# Altium schematic symbol library brain-dll-Sch.SchLib: 45 symbols
Pins are listed as number, name and electrical type; pins without a type are passive.

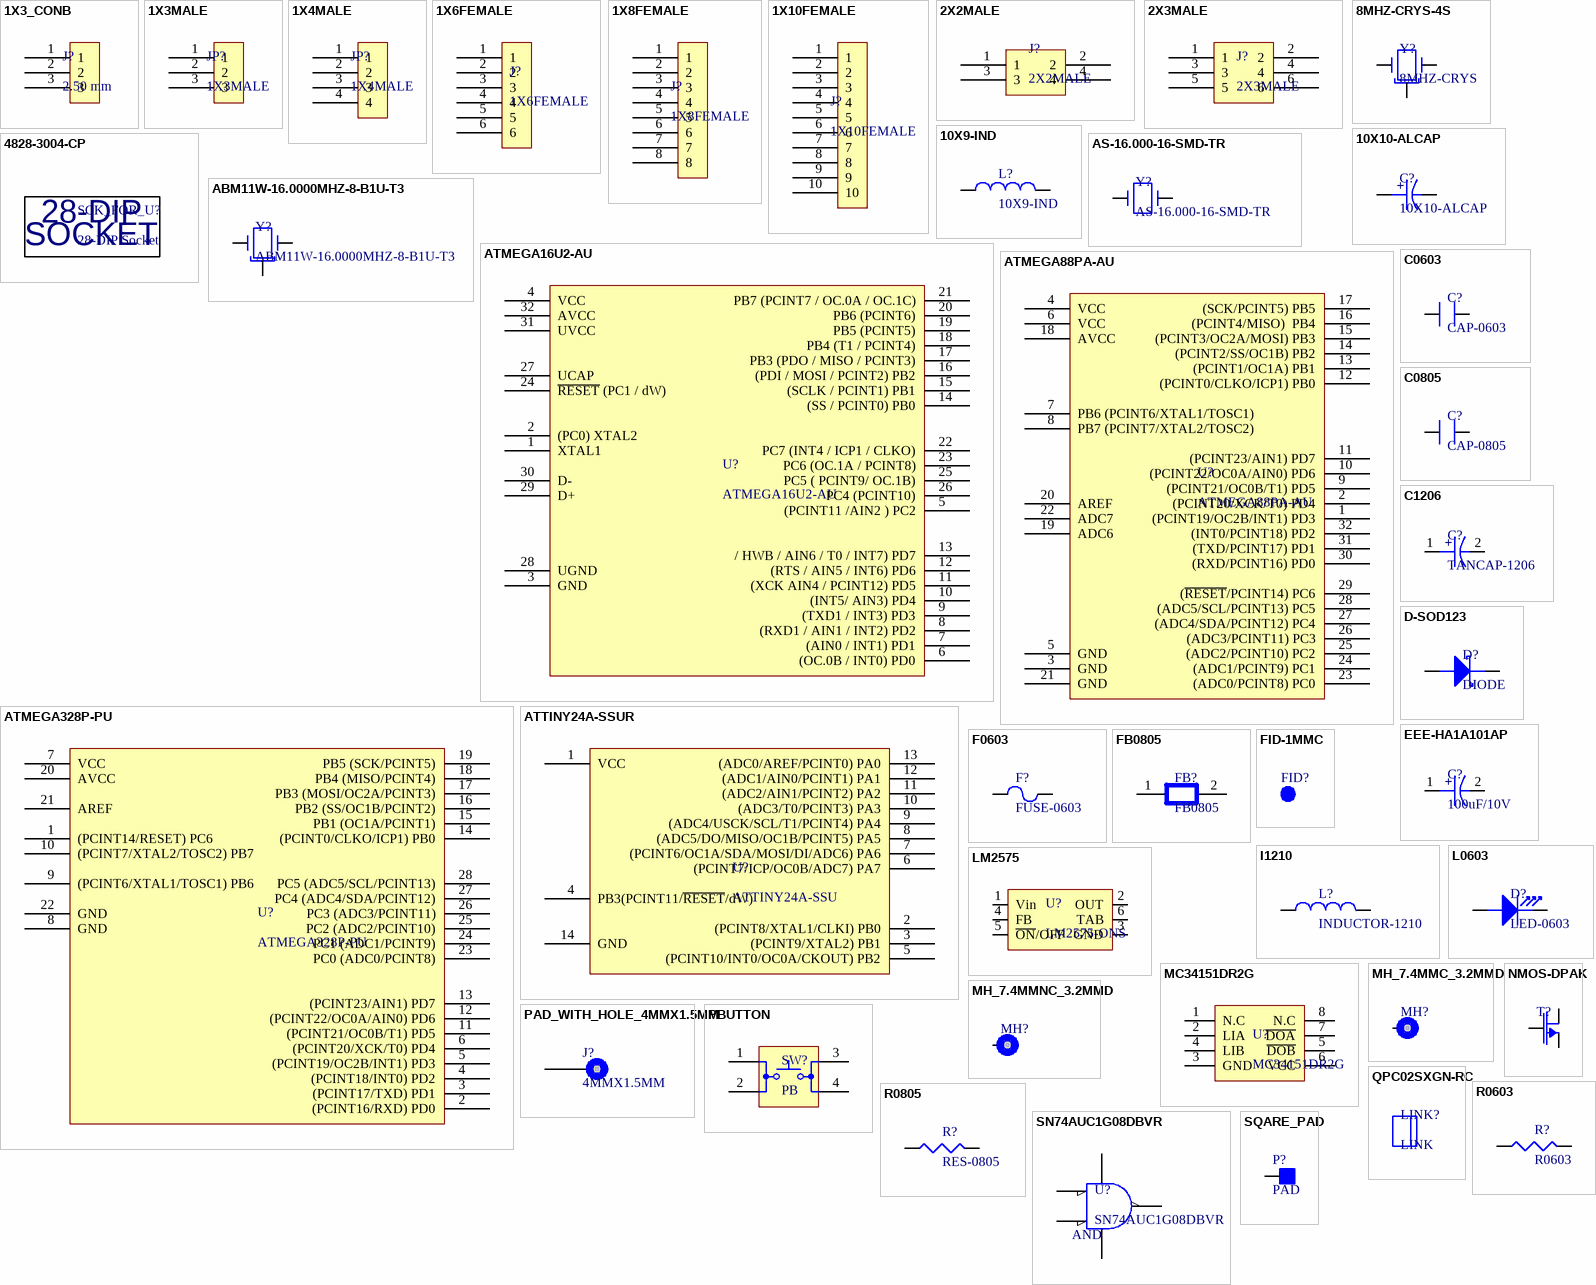
[diagram p0: symbols 1X3_CONB to SQARE_PAD]

## 1X3_CONB
designator J?, comment 2.50 mm
OZDISAN_PRICE: 0,27 TRY; ComponentLink1Description: OZDISAN_LINK; ComponentLink1URL: https://ozdisan.com/konnektor-ve-baglanti-elemanlari/konnektor-cesitleri/pcb-konnektorler/L-KLS1-XL4-2-50-03-R
footprint L-KLS1-XL4-2.50-03-R
pins: 1, 2, 3

## 1X3MALE
designator JP?
Unit_Price: *; Manufacturer Product Number: *; Order Link: *
footprint FEMALE-1X3-2.54mm
pins: 1, 2, 3

## 1X4MALE
designator JP?
Unit_Price: *; Manufacturer Product Number: *; Order Link: *
footprint HDR-1X4-2.54mm
pins: 1, 2, 3, 4

## 1X6FEMALE
designator J?
Unit_Price: *; Manufacturer Product Number: *; Order Link: *
footprint FEMALE-1X6-2.54mm
pins: 1, 2, 3, 4, 5, 6

## 1X8FEMALE
designator J?
Manufacturer Product Number: *; Order Link: *; Unit_Price: *
footprint FEMALE-1X8-2.54mm
pins: 1, 2, 3, 4, 5, 6, 7, 8

## 1X10FEMALE
designator J?
Manufacturer Product Number: *; Unit_Price: *; Order Link: *
footprint FEMALE-1X10-2.54mm
pins: 1, 2, 3, 4, 5, 6, 7, 8, 9, 10

## 2X2MALE
designator J?
Manufacturer Product Number: *; Order Link: *; Unit_Price: *
footprint HDR-2X2-2.54MM
pins: 1, 2, 3, 4

## 2X3MALE
designator J?
Manufacturer Product Number: *; Order Link: *; Unit_Price: *
footprint HDR-2X3-2.54MM
pins: 1, 2, 3, 4, 5, 6

## 8MHZ-CRYS-4S
designator Y?, comment 8MHZ-CRYS
Case/Package: 4-SMD; Unit_Price: *; Manufacturer Product Number: *; Order Link: *
footprint 4-SMD; pin to pad 2>2+4
pins: 1, 2, 3

## 10X9-IND
designator L?
Unit_Price: *; Manufacturer Product Number: *; Order Link: *
footprint 10X9-IND
pins: 1, 2

## 10X10-ALCAP
designator C?
Unit_Price: *; Manufacturer Product Number: *; Order Link: *
footprint 10X10-ALCAP
pins: 1, 2
text: +

## 4828-3004-CP
designator SCK_FOR_U?, comment 28-DIP Socket
CONN IC DIP SOCKET 28POS TIN; Manufacturer: 3M; Manufacturer Part Number: 4828-3004-CP; Number of Contacts: 28; Gender: Female; Insulation Resistance: 5GR; Connector Type: DIP,Socket; Current Rating: 1A; Pitch: 2.54mm; Row Spacing: 7.62mm; Supplier 1: Digi-Key; RoHS: Yes; Category: Connectors; Stock 1: 3763; Pricing 1: 1=0,90000, 10=0,76200, 25=0,73040, 40=0,71500, 80=0,68388, 230=0,62174, 440=0,55959, 945=0,49741, 2400=0,45078 (USD); Mount: Through Hole; Contact Material: Bronze; Contact Plating: Tin; Housing Material: Glass; Min Operating Temperature: -25°C; Max Operating Temperature: 85°C; Termination: Solder; Orientation: Straight; Number of Rows: 2; Number of Positions: 28; Package Quantity: 5600; Length: 35.43mm; Width: 10.16mm; Depth: 5.08mm; REACH SVHC: Unknown; Lead Free: Lead Free; ComponentLink1URL: https://datasheet.ciiva.com/768/ts1099-768354.pdf?src-supplier=Digi-Key; ComponentLink1Description: https://datasheet.ciiva.com/768/ts1099-768354.pdf?src-supplier=Digi-Key; Supplier Part Number 1: 3M5480-ND
footprint 28_DIP_7.62mm_SOCKET
text: 28-DIP; SOCKET

## ABM11W-16.0000MHZ-8-B1U-T3
designator Y?
Iot Optimized 16MHZ 8PF Crystal; Manufacturer: Abracon; Supplier 1: Digi-Key; Manufacturer Part Number: ABM11W-16.0000MHZ-8-B1U-T3; RoHS: Yes; Category: Crystals; Stock 1: 1980; Pricing 1: 1=0,75000, 10=0,66200, 50=0,61920, 100=0,54720, 500=0,51840, 1000=0,43200 (USD); RoHS Compliant: Yes; ComponentLink1URL: https://abracon.com/Resonators/ABM11W.pdf?src-supplier=Digi-Key; ComponentLink1Description: https://abracon.com/Resonators/ABM11W.pdf?src-supplier=Digi-Key; Supplier Part Number 1: 535-13813-1-ND
footprint ABM11W; pin to pad 2>2+4
pins: 1, 2, 3

## AS-16.000-16-SMD-TR
designator Y?
AS-SMD Series 16 MHz ±30 ppm 16pF -20°C TO +70°C SMT Microprocessor Crystal; Manufacturer: Raltron Electronics; Frequency Tolerance: 30ppm; Frequency: 16MHz; Capacitance: 1.6E-11F; OZDISAN_PRICE: 1.95 TRY; Supplier 1: Future Electronics; Manufacturer Part Number: AS-16.000-16-SMD-TR; RoHS: Yes; Pricing 1: 1000=0,12700 (USD); Min Operating Temperature: -20°C; Max Operating Temperature: 70°C; Load Capacitance: 16pF; Lead Free: Lead Free; Supplier Part Number 1: 5574900; ComponentLink2Description: OZDISAN_LINK; ComponentLink2URL: https://ozdisan.com/Product/Detail/40446/AS-16-000-16-SMD-TR
footprint AS-16.000-16-SMD-TR
pins: 1, 2

## ATMEGA16U2-AU
designator U?
MICROCHIP - ATMEGA16U2-AU - MCU, 8BIT, MEGAAVR, 16MHZ, TQFP-32; Manufacturer: Microchip / Atmel; Core Architecture: AVR; Interface: SPI,UART,USB,USART,Serial; Data Bus Width: 8b; Memory Type: FLASH; Memory Size: 16KB; RAM Size: 512B; Number of I/Os: 22; Number of Timers/Counters: 2; Max Supply Voltage: 5.5V; Min Supply Voltage: 2.7V; Oscillator Type: Internal; Watchdog Timer: Yes; Peripherals: Brown-out Detect/Reset,POR,PWM,WDT; Number of PWM Channels: 5; Number of SPI Channels: 1; Supplier 1: Arrow Electronics; Manufacturer Part Number: ATMEGA16U2-AU; RoHS: Yes; Category: Microcontrollers; Mount: Surface Mount; Case/Package: A; Number of Pins: 32; Contact Plating: Tin,Matte; Min Operating Temperature: -40°C; Max Operating Temperature: 85°C; Package Quantity: 1250; Frequency: 16MHz; Packaging: Tray; Number of Programmable I/O: 22; Max Frequency: 16MHz; Series: AVR® ATmega; Length: 7mm; Width: 7mm; Height: 1.05mm; REACH SVHC: No SVHC; Lead Free: Lead Free; RoHS Compliant: Yes; ComponentLink1URL: https://datasheet.ciiva.com/13036/doc7799-28769-13036800.pdf?src-supplier=Mouser; ComponentLink1Description: https://datasheet.ciiva.com/13036/doc7799-28769-13036800.pdf?src-supplier=Mouser; ComponentLink2URL: https://datasheet.ciiva.com/22651/doc7799-22651110.pdf?src-supplier=Farnell; ComponentLink2Description: https://datasheet.ciiva.com/22651/doc7799-22651110.pdf?src-supplier=Farnell; Supplier Part Number 1: ATMEGA16U2-AU
footprint TQFP32
pins: 1 XTAL1, 2 (PC0) XTAL2, 3 GND, 4 VCC, 5 (PCINT11 /AIN2 ) PC2, 6 (OC.0B / INT0) PD0, 7 (AIN0 / INT1) PD1, 8 (RXD1 / AIN1 / INT2) PD2, 9 (TXD1 / INT3) PD3, 10 (INT5/ AIN3) PD4, 11 (XCK AIN4 / PCINT12) PD5, 12 (RTS / AIN5 / INT6) PD6, 13 / HWB / AIN6 / T0 / INT7) PD7, 14 (SS / PCINT0) PB0, 15 (SCLK / PCINT1) PB1, 16 (PDI / MOSI / PCINT2) PB2, 17 PB3 (PDO / MISO / PCINT3), 18 PB4 (T1 / PCINT4), 19 PB5 (PCINT5), 20 PB6 (PCINT6), 21 PB7 (PCINT7 / OC.0A / OC.1C), 22 PC7 (INT4 / ICP1 / CLKO), 23 PC6 (OC.1A / PCINT8), 24 ~{RESET} (PC1 / dW), 25 PC5 ( PCINT9/ OC.1B), 26 PC4 (PCINT10), 27 UCAP, 28 UGND, 29 D+, 30 D-, 31 UVCC, 32 AVCC

## ATMEGA88PA-AU
designator U?
MCU 8-bit ATmega AVR RISC 8KB Flash 2.5V/3.3V/5V 32-Pin TQFP; Manufacturer: Microchip / Atmel; Interface: SPI,UART,I2C,USART,2-Wire; Frequency: 20MHz; Number of I/Os: 23; Oscillator Type: Internal; Peripherals: Brown-out Detect/Reset,POR,PWM,WDT; RAM Size: 1KB; Max Supply Voltage: 5.5V; Min Supply Voltage: 1.8V; Number of Timers/Counters: 3; Data Bus Width: 8b; Watchdog Timer: Yes; Number of PWM Channels: 6; Number of ADC Channels: 8; Number of SPI Channels: 1; Voltage: 5V; OZDISAN_PRICE: 33,63 TRY; Supplier 1: Arrow Electronics; Manufacturer Part Number: ATMEGA88PA-AU; RoHS: Yes; Mount: Surface Mount; Case/Package: A; Number of Pins: 32; Contact Plating: Tin,Matte; Min Operating Temperature: -40°C; Max Operating Temperature: 85°C; Packaging: Tray; Core Architecture: AVR; Package Quantity: 250; Memory Type: FLASH; Memory Size: 8KB; Number of Programmable I/O: 23; Max Frequency: 20MHz; Density: 8KB; Number of I2C Channels: 1; Termination: SMD/SMT; Series: AVR® ATmega; Length: 7mm; Width: 7mm; Height: 1.05mm; Radiation Hardening: No; REACH SVHC: No SVHC; Lead Free: Lead Free; Supplier Part Number 1: ATMEGA88PA-AU; ComponentLink4Description: OZDISAN_LINK; ComponentLink4URL: https://ozdisan.com/entegre-devreler-ics/embedded-entegreler/mikroislemciler/ATMEGA88PA-AU; Category: Microcontrollers
footprint TQFP32(ATMEGA88)
pins: 1 (PCINT19/OC2B/INT1) PD3, 2 (PCINT20/XCK/T0) PD4, 3 GND, 4 VCC, 5 GND, 6 VCC, 7 PB6 (PCINT6/XTAL1/TOSC1) , 8 PB7 (PCINT7/XTAL2/TOSC2) , 9 (PCINT21/OC0B/T1) PD5, 10 (PCINT22/OC0A/AIN0) PD6, 11 (PCINT23/AIN1) PD7, 12 (PCINT0/CLKO/ICP1) PB0, 13 (PCINT1/OC1A) PB1, 14 (PCINT2/SS/OC1B) PB2, 15 (PCINT3/OC2A/MOSI) PB3, 16 (PCINT4/MISO)  PB4, 17 (SCK/PCINT5) PB5, 18 AVCC, 19 ADC6, 20 AREF, 21 GND, 22 ADC7, 23 (ADC0/PCINT8) PC0, 24 (ADC1/PCINT9) PC1, 25 (ADC2/PCINT10) PC2, 26 (ADC3/PCINT11) PC3, 27 (ADC4/SDA/PCINT12) PC4, 28 (ADC5/SCL/PCINT13) PC5, 29 (~{RESET}/PCINT14) PC6, 30 (RXD/PCINT16) PD0, 31 (TXD/PCINT17) PD1, 32 (INT0/PCINT18) PD2

## ATMEGA328P-PU
designator U?
IC MCU 8BIT 32KB FLASH 28DIP; Manufacturer: Microchip / Atmel; RAM Size: 2KB; Number of Timers/Counters: 3; Min Supply Voltage: 1.8V; Max Supply Voltage: 5.5V; Interface: I2C,SPI,UART,USART,2-Wire; Number of I/Os: 23; Frequency: 20MHz; Oscillator Type: Internal; Data Bus Width: 8b; Watchdog Timer: Yes; Peripherals: Brown-out Detect/Reset,POR,PWM,WDT; Core Architecture: AVR; Number of PWM Channels: 6; Number of SPI Channels: 1; Supplier 1: Allied Electronics; Manufacturer Part Number: ATMEGA328P-PU; RoHS: Yes; Category: Microcontrollers; Mount: Through Hole; Case/Package: PDIP; Number of Pins: 28; Contact Plating: Tin,Matte; Min Operating Temperature: -40°C; Max Operating Temperature: 85°C; Packaging: Rail/Tube; Package Quantity: 14; Number of Programmable I/O: 23; Max Frequency: 20MHz; Memory Type: FLASH; Memory Size: 32KB; Series: AVR® ATmega; Number of ADC Channels: 6; Number of I2C Channels: 1; Length: 37.4mm; Width: 6.76mm; Height: 3.28mm; Radiation Hardening: No; RoHS Compliant: Yes; REACH SVHC: No SVHC; Lead Free: Lead Free; ComponentLink1URL: https://datasheet.ciiva.com/19457/2139111-19457070.pdf?src-supplier=Jameco; ComponentLink1Description: https://datasheet.ciiva.com/19457/2139111-19457070.pdf?src-supplier=Jameco; ComponentLink2URL: https://datasheet.ciiva.com/1157/1684409-1157696.pdf?src-supplier=Element14; ComponentLink2Description: https://datasheet.ciiva.com/1157/1684409-1157696.pdf?src-supplier=Element14; ComponentLink3URL: https://datasheet.ciiva.com/20168/73-4283-20168380.pdf?src-supplier=Rapid+Electronics; ComponentLink3Description: https://datasheet.ciiva.com/20168/73-4283-20168380.pdf?src-supplier=Rapid+Electronics; ComponentLink4URL: https://datasheet.ciiva.com/29119/155197-da-01-en-microcontr-atmega328p-pu-8bit-pdip-28-29119593.pdf?src-supplier=Conrad; ComponentLink4Description: https://datasheet.ciiva.com/29119/155197-da-01-en-microcontr-atmega328p-pu-8bit-pdip-28-29119593.pdf?src-supplier=Conrad; ComponentLink5URL: https://datasheet.ciiva.com/26818/atmega328p-pu-26818578.pdf?src-supplier=IIIC; ComponentLink5Description: https://datasheet.ciiva.com/26818/atmega328p-pu-26818578.pdf?src-supplier=IIIC; ComponentLink6URL: https://datasheet.ciiva.com/15213/getdatasheetpartid-318533-15213133.pdf?src-supplier=Verical; ComponentLink6Description: https://datasheet.ciiva.com/15213/getdatasheetpartid-318533-15213133.pdf?src-supplier=Verical; Supplier: Ozdisan; Supplier Part Number 1: 70332157
footprint DIP28
pins: 1 (PCINT14/RESET) PC6, 2 (PCINT16/RXD) PD0, 3 (PCINT17/TXD) PD1, 4 (PCINT18/INT0) PD2, 5 (PCINT19/OC2B/INT1) PD3, 6 (PCINT20/XCK/T0) PD4, 7 VCC, 8 GND, 9 (PCINT6/XTAL1/TOSC1) PB6, 10 (PCINT7/XTAL2/TOSC2) PB7, 11 (PCINT21/OC0B/T1) PD5, 12 (PCINT22/OC0A/AIN0) PD6, 13 (PCINT23/AIN1) PD7, 14 (PCINT0/CLKO/ICP1) PB0, 15 PB1 (OC1A/PCINT1), 16 PB2 (SS/OC1B/PCINT2), 17 PB3 (MOSI/OC2A/PCINT3), 18 PB4 (MISO/PCINT4), 19 PB5 (SCK/PCINT5), 20 AVCC, 21 AREF, 22 GND, 23 PC0 (ADC0/PCINT8), 24 PC1 (ADC1/PCINT9), 25 PC2 (ADC2/PCINT10), 26 PC3 (ADC3/PCINT11), 27 PC4 (ADC4/SDA/PCINT12), 28 PC5 (ADC5/SCL/PCINT13)

## ATTINY24A-SSUR
designator U?, comment ATTINY24A-SSU
MCU 8-bit ATtiny AVR RISC 2KB Flash 2.5V/3.3V/5V 14-Pin SOIC W T/R; Manufacturer: Microchip / Atmel; Manufacturer Part Number: ATTINY24A-SSUR; Number of I/Os: 12; Frequency: 20MHz; Oscillator Type: Internal; Peripherals: Brown-out Detect/Reset,POR,PWM,WDT,Temp Sensor; Interface: SPI; Number of Timers/Counters: 2; RAM Size: 128B; Max Supply Voltage: 5.5V; Min Supply Voltage: 1.8V; Data Bus Width: 8b; Watchdog Timer: Yes; OZDISAN_PRICE: 35,93; Supplier 1: Future Electronics; RoHS: Yes; Category: Microcontrollers; Mount: Surface Mount; Case/Package: SOIC; Number of Pins: 14; Contact Plating: Tin,Matte; Min Operating Temperature: -40°C; Max Operating Temperature: 85°C; Packaging: Tape and Reel; Memory Type: FLASH; Memory Size: 2KB; Core Architecture: AVR; Package Quantity: 1; Number of Programmable I/O: 12; Max Frequency: 20MHz; Series: AVR® ATtiny; Radiation Hardening: No; REACH SVHC: No SVHC; Lead Free: Lead Free; Supplier Part Number 1: 6049728; ComponentLink1Description: OZDISAN_LINK; ComponentLink1URL: https://ozdisan.com/entegre-devreler-ics/embedded-entegreler/mikroislemciler/ATTINY24A-SSU
footprint SOIC14
pins: 1 VCC, 2 (PCINT8/XTAL1/CLKI) PB0, 3 (PCINT9/XTAL2) PB1, 4 PB3(PCINT11/~{RESET}/dW), 5 (PCINT10/INT0/OC0A/CKOUT) PB2, 6 (PCINT7/ICP/OC0B/ADC7) PA7, 7 (PCINT6/OC1A/SDA/MOSI/DI/ADC6) PA6, 8 (ADC5/DO/MISO/OC1B/PCINT5) PA5, 9 (ADC4/USCK/SCL/T1/PCINT4) PA4, 10 (ADC3/T0/PCINT3) PA3, 11 (ADC2/AIN1/PCINT2) PA2, 12 (ADC1/AIN0/PCINT1) PA1, 13 (ADC0/AREF/PCINT0) PA0, 14 GND

## C0603
designator C?, comment CAP-0603
Case/Package: 0603; Unit_Price: *; Manufacturer Product Number: *; Order Link: *
footprint Z0603
pins: 1, 2

## C0805
designator C?, comment CAP-0805
Case/Package: 0805; Unit_Price: *; Manufacturer Product Number: *; Order Link: *
footprint C0805
pins: 1, 2

## C1206
designator C?, comment TANCAP-1206
Case/Package: 1206; Unit_Price: *; Manufacturer Product Number: *; Order Link: *
footprint 1206 TANTAL CAP
pins: 1, 2
text: +

## D-SOD123
designator D?, comment DIODE
Case/Package: SOD123; Unit_Price: *; Manufacturer Product Number: *; Order Link: *
footprint SOD-123
pins: 1 Cathode, 2 Anode

## EEE-HA1A101AP
designator C?, comment 100uF/10V
Cap Aluminum Lytic 100uF 10V 20% (8 X 6.2mm) SMD 110mA 1000h 105C T/R; Manufacturer: Panasonic; Manufacturer Part Number: EEE-HA1A101AP; Life (Hours): 1000Hour; Polarity: Polar; Supplier 1: Digi-Key; RoHS: Yes; Category: Aluminum Electrolytic Capacitors; Stock 1: 351; Pricing 1: 1=0,57000, 10=0,40100, 50=0,30340, 100=0,26430 (USD); Mount: Surface Mount; Case/Package: Radial; Min Operating Temperature: -40°C; Max Operating Temperature: 105°C; Capacitance: 100uF; Voltage Rating: 10V; Tolerance: 20%; Ripple Current: 110mA; Packaging: Tape and Reel; Package Quantity: 1000; Voltage Rating (DC): 10V; Termination: SMD/SMT; Series: Automotive, AEC-Q200, HA; Construction: Cylindrical; Diameter: 8mm; Length: 6.5mm; Height: 6.2mm; Height - Seated (Max): 0.244inch; Radiation Hardening: No; RoHS Compliant: Yes; ComponentLink1URL: https://datasheet.ciiva.com/24070/aba0000ce3-259063-24070870.pdf?src-supplier=Mouser; ComponentLink1Description: https://datasheet.ciiva.com/24070/aba0000ce3-259063-24070870.pdf?src-supplier=Mouser; ComponentLink2URL: https://datasheet.ciiva.com/11680/aba0000ce3-11680519.pdf?src-supplier=Avnet; ComponentLink2Description: https://datasheet.ciiva.com/11680/aba0000ce3-11680519.pdf?src-supplier=Avnet; Supplier Part Number 1: PCE4650CT-ND
footprint C_ALU_E_SIZE
pins: 1, 2
text: +

## F0603
designator F?, comment FUSE-0603
Current Rating: 0.75; Max Voltage: 6V; Order Link: *; Case/Package: 0603; Manufacturer Product Number: *; Unit_Price: *
footprint F-0603
pins: 1, 2

## FB0805
designator FB?
Case/Package: 0805; Unit_Price: *; Order Link: *; Manufacturer Product Number: *
footprint C0805
pins: 1, 2

## FID-1MMC
designator FID?, comment FID_1MMC  (value not drawn)  (no BOM)
Fiducial 40 mil Diameter, 120 mil Mask
footprint FID_40X120D

## I1210
designator L?, comment INDUCTOR-1210
Case/Package: 1210; Unit_Price: *; Order Link: *; Manufacturer Product Number: *
footprint C1210_IND
pins: 1, 2

## L0603
designator D?, comment LED-0603
Case/Package: 0603; Unit_Price: *; Order Link: *; Manufacturer Product Number: *
footprint LED-0603
pins: 1 Cathode, 2 Anode

## LM2575
designator U?, comment LM2575-ONS
Case/Package: D2PAK; Unit_Price: *; Order Link: *; Manufacturer Product Number: *
footprint D2PAK
pins: 1 Vin, 2 OUT, 3 GND, 4 FB, 5 ~{ON}/OFF, 6 TAB

## MC34151DR2G
designator U?
MC34151DR2G; Dual MOSFET Power Driver 1.5A; 6.5 to 18 V; Inverting; 8-Pin SOIC; Manufacturer: ON Semiconductor; Rise Time: 31ns; Propagation Delay: 100ns; Max Supply Voltage: 18V; Min Supply Voltage: 6.5V; Operating Supply Voltage: 12V; Number of Outputs: 2; Max Power Dissipation: 560mW; Nominal Supply Current: 10.5mA; Fall Time: 32ns; Turn-On Delay Time: 100ps; Turn-Off Delay Time: 0.0001ms; OZDISAN_PRICE: 16,19 TRY; Supplier 1: RSComponents; Manufacturer Part Number: MC34151DR2G; RoHS: Yes; Category: Gate Drivers; Stock 1: 1; Pricing 1: 10=1,76000, 50=1,49600, 200=1,32300, 500=1,14100 (USD); Mount: Surface Mount; Case/Package: SOIC; Number of Pins: 8; Min Operating Temperature: 0°C; Max Operating Temperature: 70°C; Max Output Current: 1.5A; Packaging: Tape and Reel; Package Quantity: 1; Number of Drivers: 2; Power Dissipation: 560mW; Series: -; Supply Current: 10.5mA; Length: 5mm; Width: 4mm; Height: 1.5mm; Radiation Hardening: No; REACH SVHC: No SVHC; Lead Free: Lead Free; Halogen Free: Halogen Free; RoHS Compliant: Yes; Supplier Part Number 1: 8083889; ComponentLink8Description: OZDISAN_LINK; ComponentLink8URL: https://ozdisan.com/entegre-devreler-ics/guc-entegreleri/guc-surucu-entegreleri/MC34151DR2G
footprint SOIC-8 (MC34151DR2G)
pins: 1 N.C, 2 LIA, 3 GND, 4 LIB, 5 ~{DOB}, 6 VCC, 7 ~{DOA}, 8 N.C

## MH_7.4MMC_3.2MMD
designator MH?  (value not drawn)  (no BOM)
Mounting Hole 7.4 mm Diameter, 3.2 mm Drill
footprint MH_7.4MMC_3.2MMD
pins: 1

## MH_7.4MMNC_3.2MMD
designator MH?, comment MH_7.4MMC_3.2MMD  (value not drawn)  (no BOM)
Mounting Hole 7.4 mm Diameter (Non Copper), 3.2 mm Drill NPTH
footprint MH_7.4MMC_3.2MMD_NON_COPPER_NPLT
pins: 1

## NMOS-DPAK
designator T?
Case/Package: DPAK; Unit_Price: *; Order Link: *; Manufacturer Product Number: *
footprint TO-252-3
pins: 1 GATE, 2 DRAIN, 3 SOURCE

## PAD_WITH_HOLE_4MMX1.5MM
designator J?, comment 4MMX1.5MM  (no BOM)
Pad with a hole 4mm x 1.5mm
footprint PAD_WITH_HOLE_4MMX1.5MM
pins: 1

## PBUTTON
designator SW?, comment PB
Case/Package: *; Unit_Price: *; Order Link: *; Manufacturer Product Number: *
footprint 1825910-6
pins: 1, 2, 3, 4

## QPC02SXGN-RC
designator LINK?, comment LINK  (mechanical)
CONN JUMPER SHORTING .100" GOLD; Manufacturer: Sullins; Manufacturer Part Number: QPC02SXGN-RC; Number of Positions: 2; Pitch: 0.1inch; Supplier 1: Digi-Key; RoHS: Yes; Category: Connectors; Stock 1: 613321; Pricing 1: 1=0,10000, 10=0,05000, 25=0,04080, 50=0,03780, 100=0,03650, 250=0,03152, 500=0,03024, 1000=0,02646, 2500=0,02394 (USD); Case/Package: 100; Contact Plating: Gold; Package Quantity: 2000; Packaging: Bulk; Height: 0.235inch; Lead Free: Lead Free; ComponentLink1URL: https://datasheet.ciiva.com/767/284-sxgn-11510-767869.pdf?src-supplier=Digi-Key; ComponentLink1Description: https://datasheet.ciiva.com/767/284-sxgn-11510-767869.pdf?src-supplier=Digi-Key; Supplier Part Number 1: S9337-ND

## R0603
designator R?
Manufacturer Product Number: *; Order Link: *; Unit Price: *; Case/Package: 0603
footprint R0603
pins: 1, 2

## R0805
designator R?, comment RES-0805
Case/Package: 0805; Manufacturer Product Number: *; Unit Price: *; Order Link: *
footprint R0805
pins: 1, 2

## SN74AUC1G08DBVR
designator U?
LOGIC, 74AUC1G, AND GATE, SOT23-5; Manufacturer: Texas Instruments; Min Supply Voltage: 800mV; Max Supply Voltage: 2.7V; Quiescent Current: 10uA; Number of Inputs: 2; Propagation Delay: 2ns; Number of Outputs: 1; High Level Output Current: -9mA; Low Level Output Current: 9mA; Turn-On Delay Time: 2.4ns; Schmitt Trigger Input: No; Input Type: DIFFERENTIAL; Supplier 1: Digi-Key; Manufacturer Part Number: SN74AUC1G08DBVR; RoHS: Yes; Category: Logic Gates; Stock 1: 21198; Pricing 1: 1=0,43000, 10=0,34900, 25=0,31920, 100=0,23740, 250=0,21520, 500=0,17808, 1000=0,13356 (USD); Mount: Surface Mount; Case/Package: SOT-23; Number of Pins: 5; Weight: 0.000395oz; Contact Plating: Gold; Min Operating Temperature: -40°C; Max Operating Temperature: 85°C; Logic Function: AND GATE; Package Quantity: 3000; Packaging: Tape and Reel; Number of Circuits: 1; Number of Gates: 1; Number of Input Lines: 2; Number of Output Lines: 1; Number of Elements: 1; Series: 74AUC; Technology: CMOS; Output Current: 9mA; Number of Bits: 1; Max Output Current: 9mA; Termination: SMD/SMT; Length: 3.05mm; Width: 1.75mm; Height: 1.3mm; Radiation Hardening: No; Lead Free: Lead Free; RoHS Compliant: Yes; REACH SVHC: No SVHC; ComponentLink1URL: https://datasheet.ciiva.com/4216/1146sn74auc1g08-4216507.pdf?src-supplier=Arrow+Electronics; ComponentLink1Description: https://datasheet.ciiva.com/4216/1146sn74auc1g08-4216507.pdf?src-supplier=Arrow+Electronics; ComponentLink2URL: https://datasheet.ciiva.com/6124/1775236-6124395.pdf?src-supplier=Farnell; ComponentLink2Description: https://datasheet.ciiva.com/6124/1775236-6124395.pdf?src-supplier=Farnell; ComponentLink3URL: https://datasheet.ciiva.com/23844/1634288-23844654.pdf?src-supplier=Newark; ComponentLink3Description: https://datasheet.ciiva.com/23844/1634288-23844654.pdf?src-supplier=Newark; ComponentLink4URL: https://datasheet.ciiva.com/1864/sn74auc1g08-1864662.pdf?src-supplier=Digi-Key; ComponentLink4Description: https://datasheet.ciiva.com/1864/sn74auc1g08-1864662.pdf?src-supplier=Digi-Key; ComponentLink5URL: https://datasheet.ciiva.com/1864/sn74auc1g08-1864663.pdf?src-supplier=Digi-Key; ComponentLink5Description: https://datasheet.ciiva.com/1864/sn74auc1g08-1864663.pdf?src-supplier=Digi-Key; ComponentLink6URL: https://datasheet.ciiva.com/1864/sn74auc1g08-1864664.pdf?src-supplier=Digi-Key; ComponentLink6Description: https://datasheet.ciiva.com/1864/sn74auc1g08-1864664.pdf?src-supplier=Digi-Key; ComponentLink7URL: https://datasheet.ciiva.com/14292/sn74auc1g08-14292269.pdf?src-supplier=Avnet; ComponentLink7Description: https://datasheet.ciiva.com/14292/sn74auc1g08-14292269.pdf?src-supplier=Avnet; Supplier Part Number 1: 296-13170-1-ND
footprint DBV-SOT-23-5
pins: 1, 2, 3, 4, 5
text: AND

## SQARE_PAD
designator P?, comment PAD  (no BOM)
footprint SQARE_PAD
pins: 1

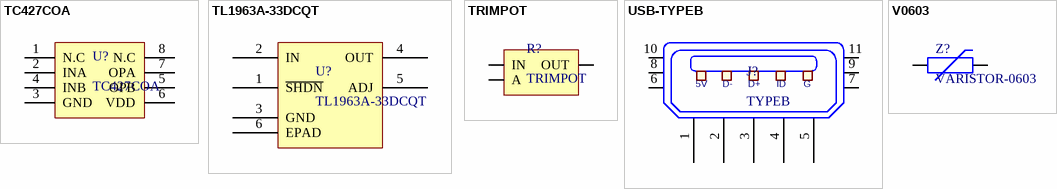
[diagram p1: symbols TC427COA to V0603]

## TC427COA
designator U?
IC MOSFET DVR 1.5A DUAL HS 8SOIC; Manufacturer: Microchip; Number of Outputs: 2; Max Supply Voltage: 18V; Min Supply Voltage: 4.5V; Rise Time: 30ns; Propagation Delay: 75ns; Operating Supply Voltage: 16V; Max Power Dissipation: 470mW; Nominal Supply Current: 8mA; Output Impedance: 6R; OZDISAN_PRICE: 20,56 TRY; Supplier 1: Digi-Key; Manufacturer Part Number: TC427COA; RoHS: Yes; Category: Gate Drivers; Stock 1: 562; Pricing 1: 1=1,45000, 25=1,19800, 100=1,08120 (USD); Mount: Surface Mount; Case/Package: SOIC; Number of Pins: 8; Min Operating Temperature: 0°C; Max Operating Temperature: 70°C; Package Quantity: 100; Packaging: Rail/Tube; Max Output Current: 1.5A; Number of Drivers: 2; Fall Time: 30ns; Power Dissipation: 470mW; Max Supply Current: 8mA; Turn-On Delay Time: 75ns; Supply Current: 8mA; Series: -; Length: 4.9mm; Width: 3.91mm; Height: 1.42mm; Radiation Hardening: No; Lead Free: Lead Free; RoHS Compliant: Yes; REACH SVHC: No SVHC; Supplier Part Number 1: TC427COA-ND; ComponentLink5Description: OZDISAN_LINK; ComponentLink5URL: https://ozdisan.com/entegre-devreler-ics/guc-entegreleri/guc-surucu-entegreleri/TC427COA
footprint SOIC-8
pins: 1 N.C, 2 INA, 3 GND, 4 INB, 5 OPB, 6 VDD, 7 OPA, 8 N.C

## TL1963A-33DCQT
designator U?
Single Output LDO, 1.5A, 3.3V Fast Trans; Manufacturer: Texas Instruments; Number of Outputs: 1; Dropout Voltage: 340mV; Max Input Voltage: 20V; Min Input Voltage: 2.1V; Min Current Limit: 1.6A; Polarity: Positive; Accuracy: 3%; Quiescent Current: 1mA; Power Supply Rejection Ratio (PSRR): 63dB; Output Type: Fixed; Supplier 1: Digi-Key; Manufacturer Part Number: TL1963A-33DCQT; RoHS: Yes; Category: Voltage Regulators - Linear; Stock 1: 528; Pricing 1: 1=4,08000, 10=3,66600, 25=3,46560, 100=3,00340 (USD); Case/Package: SOT-223; Number of Pins: 6; Contact Plating: Gold; Min Operating Temperature: -40°C; Max Operating Temperature: 125°C; Packaging: Tape and Reel; Output Voltage: 3.3V; Output Current: 1.5A; Package Quantity: 250; Max Output Current: 1.5A; Number of Regulators: 1; Max Output Voltage: 3.3V; Min Output Voltage: 3.3V; Series: -; Radiation Hardening: No; Lead Free: Lead Free; RoHS Compliant: Yes; ComponentLink1URL: https://datasheet.ciiva.com/14279/tl1963a-33-14279286.pdf?src-supplier=Avnet; ComponentLink1Description: https://datasheet.ciiva.com/14279/tl1963a-33-14279286.pdf?src-supplier=Avnet; ComponentLink2URL: https://datasheet.ciiva.com/6591/tl1963a-6591431.pdf?src-supplier=Digi-Key; ComponentLink2Description: https://datasheet.ciiva.com/6591/tl1963a-6591431.pdf?src-supplier=Digi-Key; ComponentLink3URL: https://datasheet.ciiva.com/26176/tl1963a-25-26176573.pdf?src-supplier=Avnet+Europe; ComponentLink3Description: https://datasheet.ciiva.com/26176/tl1963a-25-26176573.pdf?src-supplier=Avnet+Europe; ComponentLink4URL: https://datasheet.ciiva.com/6591/tl1963a-6591406.pdf?src-supplier=Digi-Key; ComponentLink4Description: https://datasheet.ciiva.com/6591/tl1963a-6591406.pdf?src-supplier=Digi-Key; ComponentLink5URL: https://datasheet.ciiva.com/6591/tl1963a-6591407.pdf?src-supplier=Digi-Key; ComponentLink5Description: https://datasheet.ciiva.com/6591/tl1963a-6591407.pdf?src-supplier=Digi-Key; Supplier Part Number 1: 296-32342-1-ND
footprint DCQ (R-PDSO-G6)
pins: 1 ~{SHDN}, 2 IN, 3 GND, 4 OUT, 5 ADJ, 6 EPAD

## TRIMPOT
designator R?
Manufacturer Product Number: *; Order Link: *; Unit_Price: *; Case/Package: *
footprint TRIM-3
pins: 1 IN, 2 A, 3 OUT

## USB-TYPEB
designator J?, comment TYPEB
Case/Package: TYPEB; Unit_Price: *; Order Link: *; Manufacturer Product Number: *
footprint USB-A
pins: 1, 2, 3, 4, 5, 6, 7, 8, 9, 10, 11
text: 5V; D-; D+; ID; G

## V0603
designator Z?, comment VARISTOR-0603
Case/Package: 0603; Unit_Price: *; Order Link: *; Manufacturer Product Number: *
footprint Z0603
pins: 1, 2